# EAGLE library part ATMEGA32U2 (library CEDTv78)
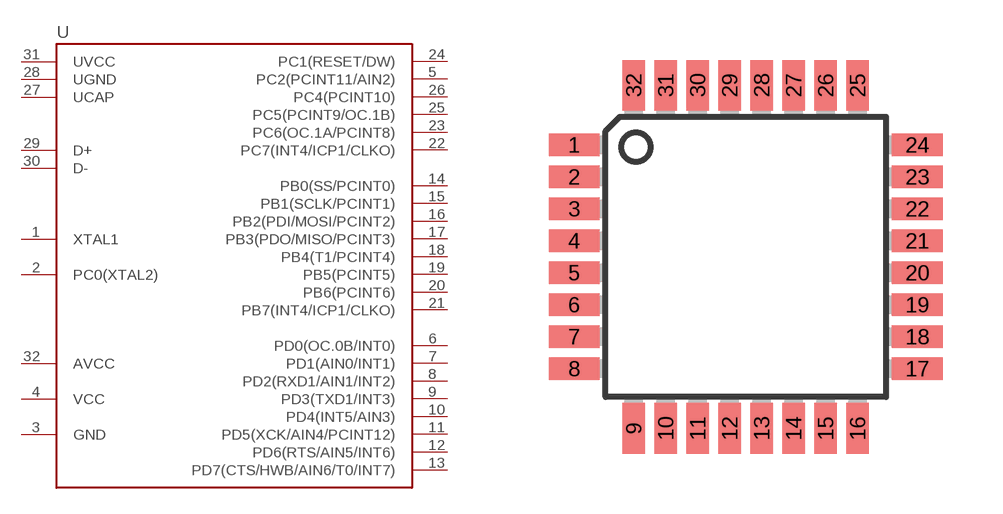
[diagram p37: symbol with the pads of TQFP32-08; footprint TQFP32-08]

Designator prefix -

## ATMEGA32U2  [TQFP32-08]
1  XTAL1
2  PC0(XTAL2)
3  GND  pwr
4  VCC  pwr
5  PC2(PCINT11/AIN2)
6  PD0(OC.0B/INT0)
7  PD1(AIN0/INT1)
8  PD2(RXD1/AIN1/INT2)
9  PD3(TXD1/INT3)
10  PD4(INT5/AIN3)
11  PD5(XCK/AIN4/PCINT12)
12  PD6(RTS/AIN5/INT6)
13  PD7(CTS/HWB/AIN6/T0/INT7)
14  PB0(SS/PCINT0)
15  PB1(SCLK/PCINT1)
16  PB2(PDI/MOSI/PCINT2)
17  PB3(PDO/MISO/PCINT3)
18  PB4(T1/PCINT4)
19  PB5(PCINT5)
20  PB6(PCINT6)
21  PB7(INT4/ICP1/CLKO)
22  PC7(INT4/ICP1/CLKO)
23  PC6(OC.1A/PCINT8)
24  PC1(RESET/DW)
25  PC5(PCINT9/OC.1B)
26  PC4(PCINT10)
27  UCAP  pas
28  UGND  pas
29  D+  pas
30  D-  pas
31  UVCC  pas
32  AVCC  pas

## Footprint TQFP32-08 (pad centres in mm)
smd 1.27 x 0.559: 1 -4.293,2.8; 2 -4.293,2; 3 -4.293,1.2; 4 -4.293,0.4; 5 -4.293,-0.4; 6 -4.293,-1.2; 7 -4.293,-2; 8 -4.293,-2.8; 17 4.293,-2.8; 18 4.293,-2; 19 4.293,-1.2; 20 4.293,-0.4; 21 4.293,0.4; 22 4.293,1.2; 23 4.293,2; 24 4.293,2.8
smd 0.559 x 1.27: 9 -2.8,-4.293; 10 -2,-4.293; 11 -1.2,-4.293; 12 -0.4,-4.293; 13 0.4,-4.293; 14 1.2,-4.293; 15 2,-4.293; 16 2.8,-4.293; 25 2.8,4.293; 26 2,4.293; 27 1.2,4.293; 28 0.4,4.293; 29 -0.4,4.293; 30 -1.2,4.293; 31 -2,4.293; 32 -2.8,4.293